# EAGLE library part ATMEGA1284P-AU (library Atmel_By_element14_Batch_1-00)
Microcontroller with Programmable Flash
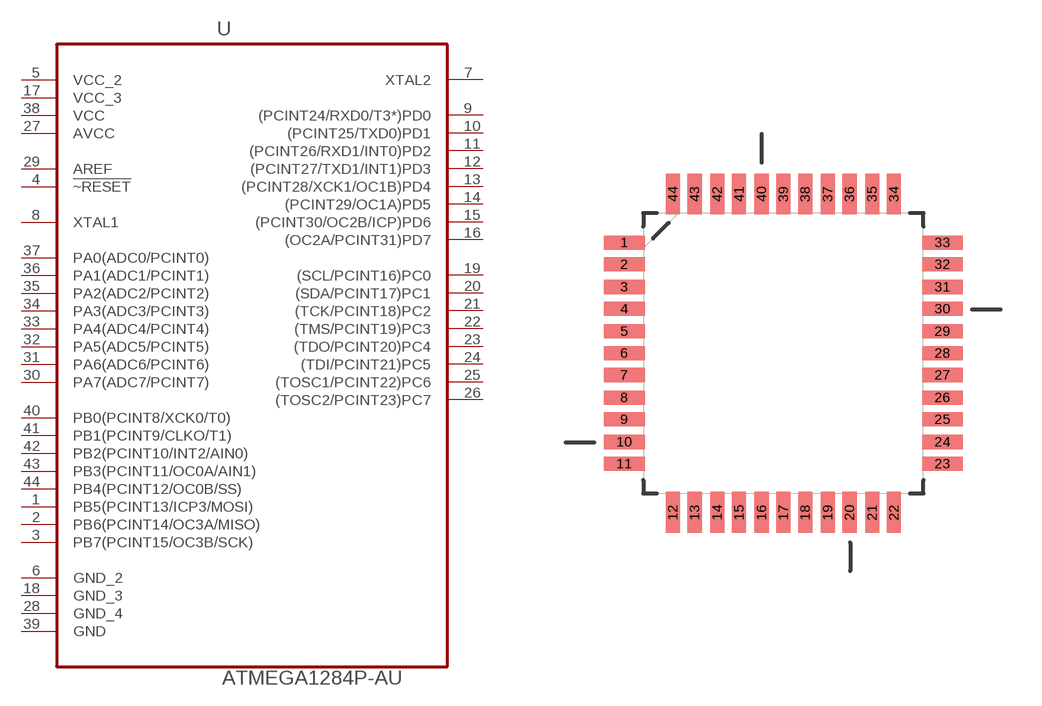
[diagram p131: symbol with the pads of QFP80P1200X1200X120-44N; footprint QFP80P1200X1200X120-44N]

Designator prefix U

## ATMEGA1284P-AU (MPN: ATMEGA1284P-AU; OC_FARNELL: 1715480; OC_NEWARK: 15R0263; PACKAGE: TQFP-44; SUPPLIER: Atmel)  [QFP80P1200X1200X120-44N]
1  PB5(PCINT13/ICP3/MOSI)
2  PB6(PCINT14/OC3A/MISO)
3  PB7(PCINT15/OC3B/SCK)
4  !~RESET  in
5  VCC_2  pwr
6  GND_2  pas
7  XTAL2  out
8  XTAL1  in
9  (PCINT24/RXD0/T3*)PD0
10  (PCINT25/TXD0)PD1
11  (PCINT26/RXD1/INT0)PD2
12  (PCINT27/TXD1/INT1)PD3
13  (PCINT28/XCK1/OC1B)PD4
14  (PCINT29/OC1A)PD5
15  (PCINT30/OC2B/ICP)PD6
16  (OC2A/PCINT31)PD7
17  VCC_3  pwr
18  GND_3  pas
19  (SCL/PCINT16)PC0
20  (SDA/PCINT17)PC1
21  (TCK/PCINT18)PC2
22  (TMS/PCINT19)PC3
23  (TDO/PCINT20)PC4
24  (TDI/PCINT21)PC5
25  (TOSC1/PCINT22)PC6
26  (TOSC2/PCINT23)PC7
27  AVCC  pwr
28  GND_4  pas
29  AREF  in
30  PA7(ADC7/PCINT7)
31  PA6(ADC6/PCINT6)
32  PA5(ADC5/PCINT5)
33  PA4(ADC4/PCINT4)
34  PA3(ADC3/PCINT3)
35  PA2(ADC2/PCINT2)
36  PA1(ADC1/PCINT1)
37  PA0(ADC0/PCINT0)
38  VCC  pwr
39  GND  pas
40  PB0(PCINT8/XCK0/T0)
41  PB1(PCINT9/CLKO/T1)
42  PB2(PCINT10/INT2/AIN0)
43  PB3(PCINT11/OC0A/AIN1)
44  PB4(PCINT12/OC0B/SS)

## Footprint QFP80P1200X1200X120-44N (pad centres in mm)
smd 1.473 x 0.508: 1 -5.74,3.988; 2 -5.74,3.2; 3 -5.74,2.388; 4 -5.74,1.6; 5 -5.74,0.787; 6 -5.74,0; 7 -5.74,-0.787; 8 -5.74,-1.6; 9 -5.74,-2.388; 10 -5.74,-3.2; 11 -5.74,-3.988; 23 5.74,-3.988; 24 5.74,-3.2; 25 5.74,-2.388; 26 5.74,-1.6; 27 5.74,-0.787; 28 5.74,0; 29 5.74,0.787; 30 5.74,1.6; 31 5.74,2.388; 32 5.74,3.2; 33 5.74,3.988
smd 0.508 x 1.473: 12 -3.988,-5.74; 13 -3.2,-5.74; 14 -2.388,-5.74; 15 -1.6,-5.74; 16 -0.787,-5.74; 17 0,-5.74; 18 0.787,-5.74; 19 1.6,-5.74; 20 2.388,-5.74; 21 3.2,-5.74; 22 3.988,-5.74; 34 3.988,5.74; 35 3.2,5.74; 36 2.388,5.74; 37 1.6,5.74; 38 0.787,5.74; 39 0,5.74; 40 -0.787,5.74; 41 -1.6,5.74; 42 -2.388,5.74; 43 -3.2,5.74; 44 -3.988,5.74